# Altium footprint library Sensors.PcbLib: 1 footprints
Each footprint in its own frame and in the unit in brackets; x right, y up, seen from the top. Pads: shape width x height; smd on the part's side, far side on the other; paste and mask are expansions set on the pad; w line width, h text height; cw(c..) or ccw(c..) is an arc to the next point about the centre after c.
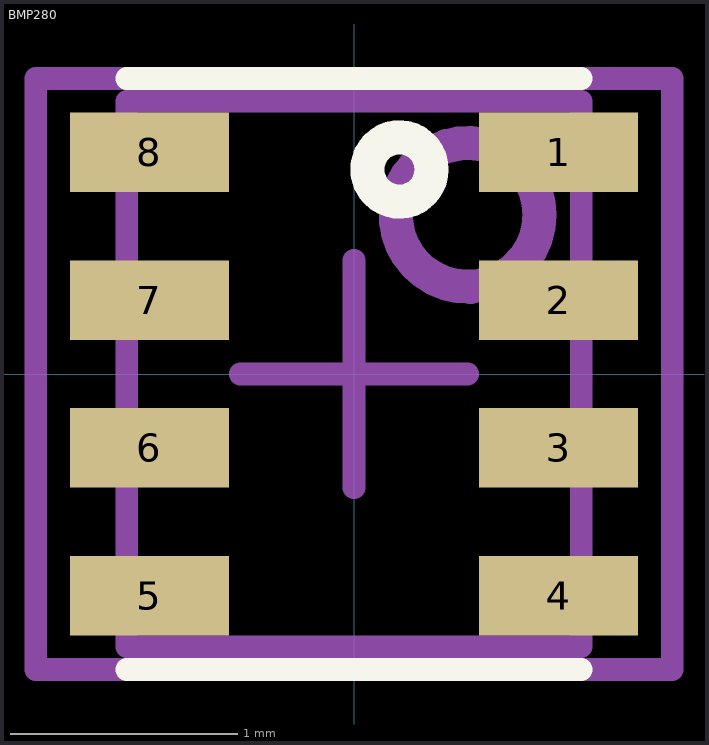
[diagram p0: the footprint, top view; thin cyan lines are the x and y axes]

## BMP280 [mm] "Bosch BMP-280 pressure sensor"
height 1
pads (8):
  rect 0.7x0.35 smd paste+0.05: 1(0.9,0.975) 2(0.9,0.325) 3(0.9,-0.325) 4(0.9,-0.975) 5(-0.9,-0.975) 6(-0.9,-0.325) 7(-0.9,0.325) 8(-0.9,0.975)
Top Overlay:
  circle w0.15: c0.2,0.9 r0.141
  lines w0.1: -1,-1.3 1,-1.3 ; -1,1.3 1,1.3
Top Assembly (Mech3):
  circle w0.15: c0.5,0.7 r0.316
  lines w0.1: -1,-1.2 1,-1.2 1,1.2 -1,1.2 -1,-1.2
Top Courtyard:
  lines w0.1: -0.5,0 0.5,0 ; 0,-0.5 0,0.5 ; -1.4,-1.3 -1.4,1.3 1.4,1.3 1.4,-1.3 -1.4,-1.3
3D body "User Library-BST-BMP280.STEP": height 1, standoff 0, extent -1,-1.25 1,1.25